# Altium schematic symbol library Sensor - Temperature.SchLib: 5 symbols
Pins are listed as number, name and electrical type; pins without a type are passive.

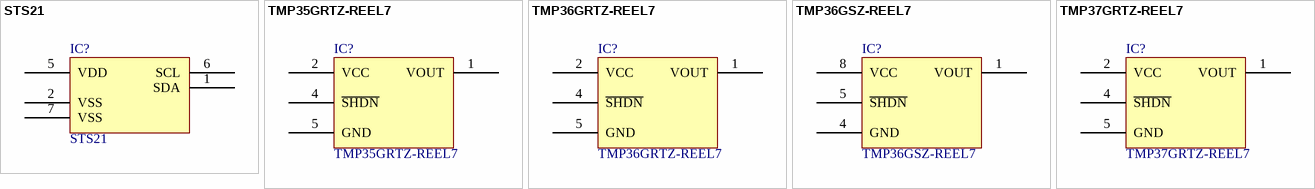
[diagram p0: symbols STS21 to TMP37GRTZ-REEL7]

## STS21
designator IC?
HIGH ACCURACY DIGITAL TEMP SENSO; Manufacturer: Sensirion AG; Sensor Type: Digital, Local; Sensing Temperature - Local: -40C ~ 125C; Output Type: IC; Voltage - Supply: 2.1 V ~ 3.6 V; Resolution: 14 b; Accuracy: 0.2C; Part Number: STS21; PartId: 14586; Supplier 1: Digi-Key; Supplier Part Number 1: 1649-1016-2-ND; ComponentLink1Description: Datasheet; ComponentLink1URL: https://www.sensirion.com/fileadmin/user_upload/customers/sensirion/Dokumente/Humidity_Sensors/Sensirion_Humidity_Sensors_Handling_of_SMD_Packages_V1.pdf; ComponentLink2Description: Digi-Key Listing; ComponentLink2URL: http://www.digikey.ca/product-detail/en/sensirion-ag/STS21/1649-1016-2-ND/5872256; Price: 2.9297; Type: Temperature Sensors, Transducers; Device Package: 6-TDFN Exposed Pad; Series: Automotive, AEC-Q100; Sensing Temperature - Remote: -; Features: Sleep Mode; Operating Temperature: -40C ~ 125C
footprint SENSIRION STS21
pins: 1 SDA, 2 VSS, 5 VDD, 6 SCL, 7 VSS

## TMP35GRTZ-REEL7
designator IC?
SENSOR TEMP RATIOMETRIC SOT23-5; Manufacturer: Analog Devices Inc.; Sensor Type: Analog, Local; Sensing Temperature - Local: 10C ~ 125C; Output Type: Ratiometric, Voltage; Voltage - Supply: 2.7 V ~ 5.5 V; Resolution: 10mV/C; Accuracy: 3C (4C); Part Number: TMP35GRTZ-REEL7; PartId: 10875; Supplier 1: Digi-Key; Supplier Part Number 1: TMP35GRTZ-REEL7TR-ND; ComponentLink1Description: Datasheet; ComponentLink1URL: http://www.analog.com/media/en/technical-documentation/data-sheets/TMP35_36_37.pdf; ComponentLink2Description: Digi-Key Listing; ComponentLink2URL: https://www.digikey.com/product-detail/en/analog-devices-inc/TMP35GRTZ-REEL7/TMP35GRTZ-REEL7TR-ND/995762; Price: 0.835; Device Package: SC-74A, SOT-753; Series: -; Features: Shutdown Mode; Operating Temperature: -40C ~ 150C
footprint ANALOG SOT-23-5 RJ-5
pins: 1 VOUT, 2 VCC, 4 ~{SHDN}, 5 GND

## TMP36GRTZ-REEL7
designator IC?
SENSOR TEMP RATIOMETRIC SOT23-5; Manufacturer: Analog Devices Inc.; Sensor Type: Analog, Local; Sensing Temperature - Local: -40C ~ 125C; Output Type: Ratiometric, Voltage; Voltage - Supply: 2.7 V ~ 5.5 V; Resolution: 10mV/C; Accuracy: 3C (4C); Part Number: TMP36GRTZ-REEL7; PartId: 10874; Supplier 1: Digi-Key; Supplier Part Number 1: TMP36GRTZ-REEL7TR-ND; ComponentLink1Description: Datasheet; ComponentLink1URL: http://www.analog.com/media/en/technical-documentation/data-sheets/TMP35_36_37.pdf; ComponentLink2Description: Digi-Key Listing; ComponentLink2URL: https://www.digikey.com/product-detail/en/analog-devices-inc/TMP36GRTZ-REEL7/TMP36GRTZ-REEL7TR-ND/995761; Price: 0.835; Device Package: SC-74A, SOT-753; Series: -; Features: Shutdown Mode; Operating Temperature: -40C ~ 150C
footprint ANALOG SOT-23-5 RJ-5
pins: 1 VOUT, 2 VCC, 4 ~{SHDN}, 5 GND

## TMP36GSZ-REEL7
designator IC?
SENSOR TEMP RATIOMETRIC 8SOIC; Manufacturer: Analog Devices Inc.; Sensor Type: Analog, Local; Sensing Temperature - Local: -40C ~ 125C; Output Type: Ratiometric, Voltage; Voltage - Supply: 2.7 V ~ 5.5 V; Resolution: 10mV/C; Accuracy: 3C (4C); Part Number: TMP36GSZ-REEL7; PartId: 10876; Supplier 1: Digi-Key; Supplier Part Number 1: TMP36GSZ-REEL7TR-ND; ComponentLink1Description: Datasheet; ComponentLink1URL: http://www.analog.com/media/en/technical-documentation/data-sheets/TMP35_36_37.pdf; ComponentLink2Description: Digi-Key Listing; ComponentLink2URL: http://www.digikey.ca/product-detail/en/analog-devices-inc/TMP36GSZ-REEL7/TMP36GSZ-REEL7TR-ND/995769; Price: 0.8946; Type: Temperature Sensors, Transducers; Device Package: 8-SOIC (0.154", 3.90mm Width); Series: -; Sensing Temperature - Remote: -; Features: Shutdown Mode; Operating Temperature: -40C ~ 150C
footprint ANALOG SO-8 R-8
pins: 1 VOUT, 4 GND, 5 ~{SHDN}, 8 VCC

## TMP37GRTZ-REEL7
designator IC?
SENSOR TEMP RATIOMETRIC SOT23-5; Manufacturer: Analog Devices Inc.; Sensor Type: Analog, Local; Sensing Temperature - Local: 5C ~ 100C; Output Type: Ratiometric, Voltage; Voltage - Supply: 2.7 V ~ 5.5 V; Resolution: 20mV/C; Accuracy: 3C (4C); Part Number: TMP37GRTZ-REEL7; PartId: 10873; Supplier 1: Digi-Key; Supplier Part Number 1: TMP37GRTZ-REEL7TR-ND; ComponentLink1Description: Datasheet; ComponentLink1URL: http://www.analog.com/media/en/technical-documentation/data-sheets/TMP35_36_37.pdf; ComponentLink2Description: Digi-Key Listing; ComponentLink2URL: https://www.digikey.com/product-detail/en/analog-devices-inc/TMP37GRTZ-REEL7/TMP37GRTZ-REEL7TR-ND/995773; Price: 0.7607; Device Package: SC-74A, SOT-753; Series: -; Features: Shutdown Mode; Operating Temperature: -40C ~ 150C
footprint ANALOG SOT-23-5 RJ-5
pins: 1 VOUT, 2 VCC, 4 ~{SHDN}, 5 GND